# Altium footprint library Relay.PcbLib: 2 footprints
Each footprint in its own frame and in the unit in brackets; x right, y up, seen from the top. Pads: shape width x height; smd on the part's side, far side on the other; paste and mask are expansions set on the pad; w line width, h text height; cw(c..) or ccw(c..) is an arc to the next point about the centre after c.
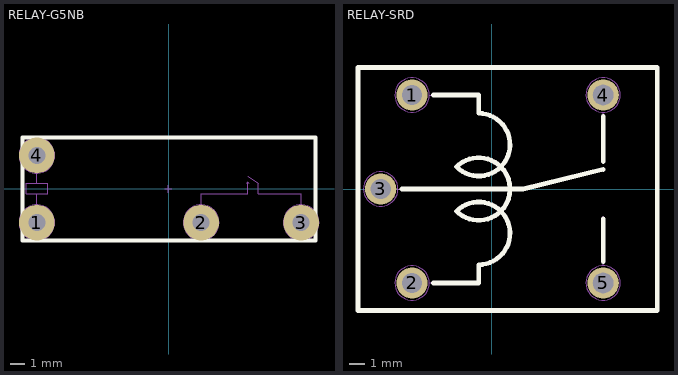
[diagram p0: the footprints below, top view; thin cyan lines are the x and y axes]

## RELAY-G5NB [mm] "20.5x7.2mm"
height 15.3
pads (4):
  round 2.5 hole 1.2: 1(-9.25,-2.35) 2(2.25,-2.35) 3(9.25,-2.35) 4(-9.25,2.35)
Top Overlay:
  lines w0.3: -10.25,-3.6 -10.25,3.6 10.25,3.6 10.25,-3.6 -10.25,-3.6
Top HCB:
  circle w0.05: c9.25,-2.35 r1.25
  circle w0.05: c2.25,-2.35 r1.25
  circle w0.05: c-9.25,-2.35 r1.25
  circle w0.05: c-9.25,2.35 r1.25
  region: 5.5,0.4 5.6,0.4 5.5,0.5
  region: 5.5,0.4 5.4,0.4 5.5,0.5
  lines w0.05: -9.25,-1.1 -9.25,-0.35 ; -9.25,0.4 -9.25,1.15 ; -0.3,0 0.2,0 ; -0.05,-0.25 -0.05,0.25 ; 2.25,-1.1 2.25,-0.35 5.5,-0.35 5.5,0.4 ; 5.5,0.9 6.25,0.4 6.25,-0.35 9.25,-0.35 9.25,-1.1 ; -10,-0.35 -8.5,-0.35 -8.5,0.4 -10,0.4 -10,-0.35
3D body "Relay_G5NB.STEP": height 15.3, standoff -3.4, extent -10.25,-3.6 10.25,3.6

## RELAY-SRD [mm] "Relay SRD-05VDC-SL-C, 5 pin, 10A,19.1X15.5"
height 15.8
pads (5):
  round 2 hole 1.3: 1(-5.1,6) 2(-5.1,-6) 3(-7.1,0) 4(7.1,6) 5(7.1,-6)
Top Overlay:
  lines w0.3: -5.75,0 2,0 7.1,1.25 ; -3.75,-6 -0.85,-6 -0.85,-4.828 ccw(c-0.85,-2.828) -2.264,-1.414 ccw(c-0.85,0) -2.264,1.414 ccw(c-0.85,2.828) -0.85,4.828 -0.85,6 -3.75,6 ; 7.1,-4.65 7.1,-1.9 ; 7.1,1.75 7.1,4.65 ; -8.55,-7.75 10.55,-7.75 10.55,7.75 -8.55,7.75 -8.55,-7.75
Top HCB:
  circle w0.05: c-7.1,0 r1.1
  circle w0.05: c7.1,6 r1.1
  circle w0.05: c7.1,-6 r1.1
  circle w0.05: c-5.1,6 r1.1
  circle w0.05: c-5.1,-6 r1.1
  lines w0.05: -6,0 2,0 7.1,1.25 ; -4,-6 -0.85,-6 -0.85,-4.828 ccw(c-0.85,-2.828) -2.264,-1.414 ccw(c-0.85,0) -2.264,1.414 ccw(c-0.85,2.828) -0.85,4.828 -0.85,6 -4,6 ; 7.1,-4.9 7.1,-1.75 ; 7.1,1.75 7.1,4.9 ; -8.55,-7.75 10.55,-7.75 10.55,7.75 -8.55,7.75 -8.55,-7.75 ; -8.5,-7.75 10.6,-7.75 10.6,7.75 -8.5,7.75 -8.5,-7.75
  text "4" at 6.686,5.5 h1
  text "5" at 6.733,-6.5 h1
  text "1" at -5.298,5.5 h1
  text "2" at -5.467,-6.5 h1
  text "3" at -7.4,-0.5 h1
  text "NO" at 4.4,-6.5 h0.8
  text "NC" at 4.419,5.65 h0.8
  text "COIL" at -6.244,3.95 h0.8
  text "COM" at -8.186,1.2 h0.8
  text "COIL" at -6.244,-4.8 h0.8
3D body "RELAY_SRD-05VDC.STEP": height 15.9, standoff -2.8, extent -8.6,-7.8 10.6,7.8